# Altium footprint library ZXMN3A01ZTA.PcbLib: 1 footprints
Each footprint in its own frame and in the unit in brackets; x right, y up, seen from the top. Pads: shape width x height; smd on the part's side, far side on the other; paste and mask are expansions set on the pad; w line width, h text height; cw(c..) or ccw(c..) is an arc to the next point about the centre after c.
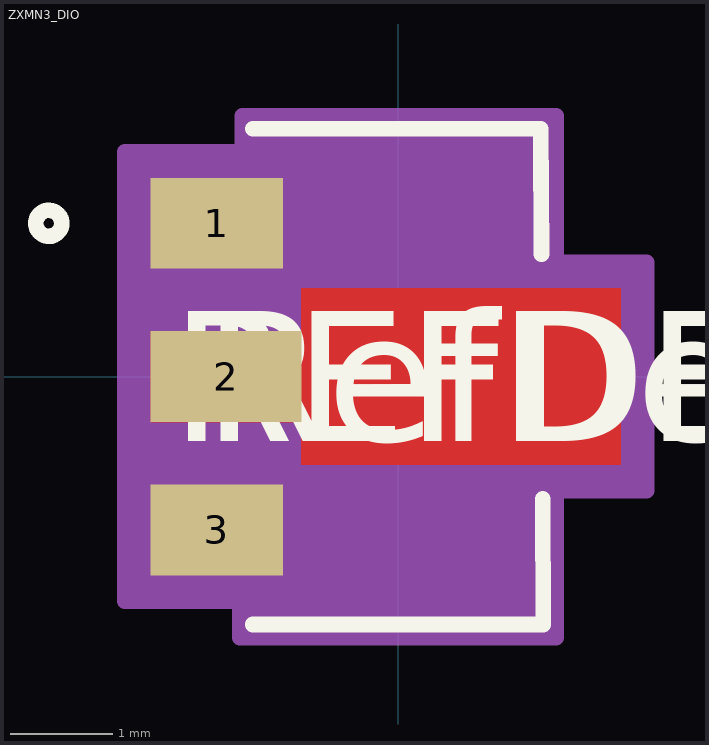
[diagram p0: the footprint, top view; thin cyan lines are the x and y axes]

## ZXMN3_DIO [mil]
pads (3):
  rect 51x35 smd paste-17.5 mask+0: 1(-69.79,59.06) 3(-69.79,-59.06)
  rect 58.1x35 smd paste-29.05 mask-29: 2(-66.24,0)
Top Layer:
  region: -95.29,-17.5 -95.29,17.5 -37.19,17.5 -37.19,34 85.81,34 85.81,-34 -37.19,-34 -37.19,-17.5
  region: 0,34
  region: 0,-34
Top Overlay:
  circle w6: c-134.53,59.06 r5
  lines w6: -56,-95.5 56,-95.5 55.75,-47.1 ; -56,95.5 55,95.5 55.25,47.1
  text "RefDes" at -75,-25 h50
  text "REFDES" at -87.5,-25 h50
Top Paste:
  region: -75.5,-17.5 -75.5,17.5 -17.4,17.5 -17.4,34 105.6,34 105.6,-34 -17.4,-34 -17.4,-17.5
Top Solder:
  region: -95.29,-17.5 -95.29,17.5 -37.19,17.5 -37.19,34 85.81,34 85.81,-34 -37.19,-34 -37.19,-17.5
  region: 0,34
  region: 0,-34
Mechanical 13:
  circle w0: c-24.5,59.06 r3
  lines w0: -12,90.5 ccw(c0,90.5) 12,90.5
  lines w1: -51,-90.5 51,-90.5 51,90.5 -51,90.5 -51,-90.5
  text "RefDes2" at -87.5,-25 h50
Mechanical 15:
  region: -105.29,31.56 -105.29,-31.56 -105.29,-86.56 -60.93,-86.56 -61,-100.5 61,-100.5 61,-44 95.81,-44 95.81,44 61,44 61,100.5 -60,100.5 -60.07,86.56 -105.29,86.56
  lines w6: -105.29,-86.56 -105.29,86.56 -60.07,86.56 -60,100.5 61,100.5 61,44 95.81,44 95.81,-44 61,-44 61,-100.5 -61,-100.5 -60.93,-86.56 -105.29,-86.56